# Altium schematic symbol library SLA7073MPRT.SchLib: 1 symbol
Pins are listed as number, name and electrical type; pins without a type are passive.

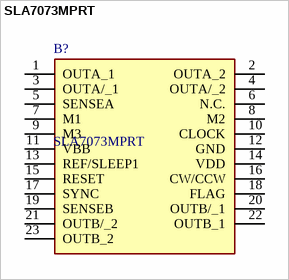
[diagram p0: symbol SLA7073MPRT]

## SLA7073MPRT
designator B?
IC MOTOR DRIVER PAR 23SLA; Manufacturer_Name: SANKEN ELECTRIC CO.; Geometry.Height: 16mm; RS Part Number: *; RS Price/Stock: *; Manufacturer_Part_Number: SLA7073MPRT; Datasheet Link: http://www.semicon.sanken-ele.co.jp/sk_content/sla7070mprt_ds_en.pdf
footprint SLA7073MPRT
pins: 1 OUTA_1, 2 OUTA_2, 3 OUTA/_1, 4 OUTA/_2, 5 SENSEA, 6 N.C., 7 M1, 8 M2, 9 M3, 10 CLOCK, 11 VBB, 12 GND, 13 REF/SLEEP1, 14 VDD, 15 RESET, 16 CW/CCW, 17 SYNC, 18 FLAG, 19 SENSEB, 20 OUTB/_1, 21 OUTB/_2, 22 OUTB_1, 23 OUTB_2